# Altium schematic symbol library TI SN74LVC2G07.SchLib: 1 symbol
Pins are listed as number, name and electrical type; pins without a type are passive.

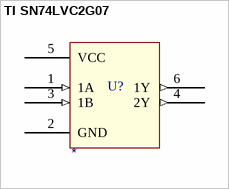
[diagram p0: symbol TI SN74LVC2G07]

## TI SN74LVC2G07
designator U?
Part Number: *
pins: 1 1A (in), 2 GND (power), 3 1B (in), 4 2Y (out), 5 VCC (power), 6 1Y (out)